# Altium footprint library diymore_BME280_breakout.PcbLib: 1 footprints
Each footprint in its own frame and in the unit in brackets; x right, y up, seen from the top. Pads: shape width x height; smd on the part's side, far side on the other; paste and mask are expansions set on the pad; w line width, h text height; cw(c..) or ccw(c..) is an arc to the next point about the centre after c.
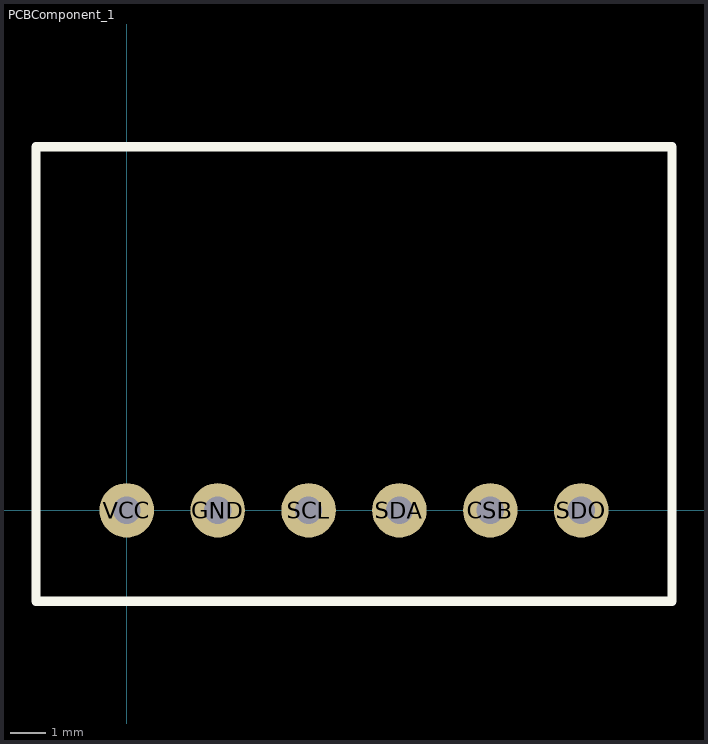
[diagram p0: the footprint, top view; thin cyan lines are the x and y axes]

## PCBComponent_1 [mil]
pads (6):
  round 60 hole 30: CSB(400,0) GND(100,0) SCL(200,0) SDA(300,0) SDO(500,0) VCC(0,0)
Top Overlay:
  lines w10: -100,-100 600,-100 600,400 -100,400 -100,-100